# Altium footprint library VQFN-HR RNR.PcbLib: 1 footprints
Each footprint in its own frame and in the unit in brackets; x right, y up, seen from the top. Pads: shape width x height; smd on the part's side, far side on the other; paste and mask are expansions set on the pad; w line width, h text height; cw(c..) or ccw(c..) is an arc to the next point about the centre after c.
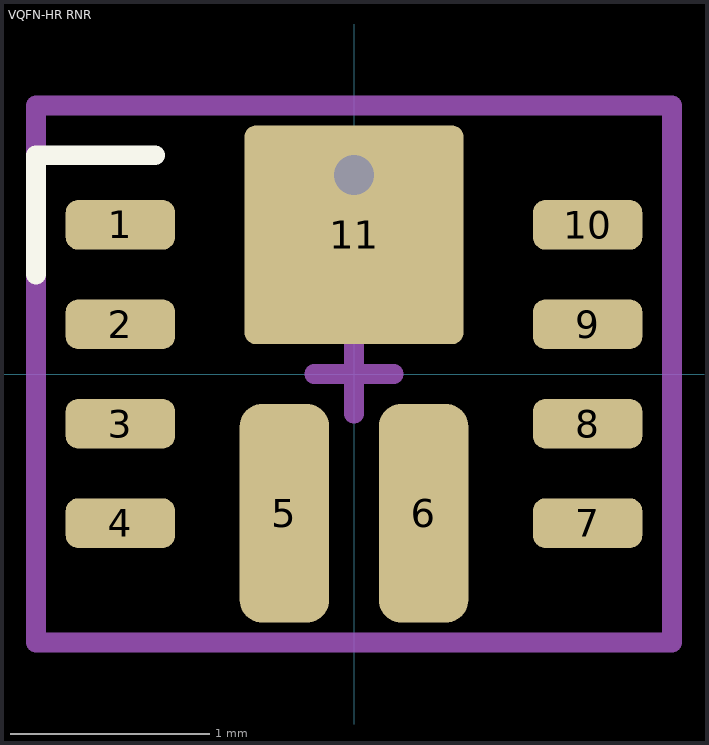
[diagram p0: the footprint, top view; thin cyan lines are the x and y axes]

## VQFN-HR RNR [mm]
pads (11):
  rrect50% 0.55x0.25 smd mask+0.05: 1(-1.175,0.75) 2(-1.175,0.25) 3(-1.175,-0.25) 4(-1.175,-0.75) 7(1.175,-0.75) 8(1.175,-0.25) 9(1.175,0.25) 10(1.175,0.75)
  rrect50% 0.45x1.1 smd paste-0.05 mask-0.05: 5(-0.35,-0.7) 6(0.35,-0.7)
  rrect10% 1.1x1.1 smd paste-10 mask-10: 11(0,0.7)
via 0,1 diameter 0.4 hole 0.2
Top Overlay:
  lines w0.1: -1.6,0.5 -1.6,1.1 -1,1.1
Top Paste:
  region: -0.5,1.15 -0.5,1.16 -0.492,1.178 -0.478,1.192 -0.46,1.2 -0.45,1.2 -0.3,1.2 -0.29,1.2 -0.272,1.192 -0.258,1.178 -0.25,1.16 -0.25,1.15 -0.25,0.95 -0.25,0.94 -0.258,0.922 -0.272,0.908 -0.29,0.9 -0.3,0.9 -0.45,0.9 -0.46,0.9 -0.478,0.908 -0.492,0.922 -0.5,0.94 -0.5,0.95
  region: 0.25,1.15 0.25,1.16 0.258,1.178 0.272,1.192 0.29,1.2 0.3,1.2 0.45,1.2 0.46,1.2 0.478,1.192 0.492,1.178 0.5,1.16 0.5,1.15 0.5,0.95 0.5,0.94 0.492,0.922 0.478,0.908 0.46,0.9 0.45,0.9 0.3,0.9 0.29,0.9 0.272,0.908 0.258,0.922 0.25,0.94 0.25,0.95
  region: -0.5,0.7 -0.5,0.71 -0.492,0.728 -0.478,0.742 -0.46,0.75 -0.45,0.75 0.45,0.75 0.46,0.75 0.478,0.742 0.492,0.728 0.5,0.71 0.5,0.7 0.5,0.25 0.5,0.24 0.492,0.222 0.478,0.208 0.46,0.2 0.45,0.2 -0.45,0.2 -0.46,0.2 -0.478,0.208 -0.492,0.222 -0.5,0.24 -0.5,0.25
Top Solder:
  region: -0.5,1.15 -0.5,1.16 -0.492,1.178 -0.478,1.192 -0.46,1.2 -0.45,1.2 -0.3,1.2 -0.29,1.2 -0.272,1.193 -0.257,1.178 -0.25,1.16 -0.25,1.15 -0.25,0.8 -0.249,0.79 -0.242,0.772 -0.228,0.758 -0.21,0.751 -0.2,0.75 0.2,0.75 0.21,0.751 0.228,0.758 0.242,0.772 0.249,0.79 0.25,0.8 0.25,1.15 0.25,1.16 0.258,1.178 0.272,1.192 0.29,1.2 0.3,1.2 0.45,1.2 0.46,1.2 0.478,1.192 0.492,1.178 0.5,1.16 0.5,1.15 0.5,0.3 0.5,0.29 0.493,0.272 0.478,0.257 0.46,0.25 0.45,0.25 -0.45,0.25 -0.46,0.25 -0.478,0.258 -0.492,0.272 -0.5,0.29 -0.5,0.3
Top Assembly:
  lines w0.1: -1.6,-1.35 1.6,-1.35 1.6,1.35 -1.6,1.35 -1.6,-1.35
Top Courtyard:
  lines w0.1: -0.2,0 0.2,0 ; 0,-0.2 0,0.2 ; -1.6,-1.35 1.6,-1.35 1.6,1.35 -1.6,1.35 -1.6,-1.35
3D body "RNR0011A.stp": height 1, standoff 0, extent -1.25,-1 1.25,1